# Altium schematic symbol library Deej Board.SCHLIB: 24 symbols
Pins are listed as number, name and electrical type; pins without a type are passive.

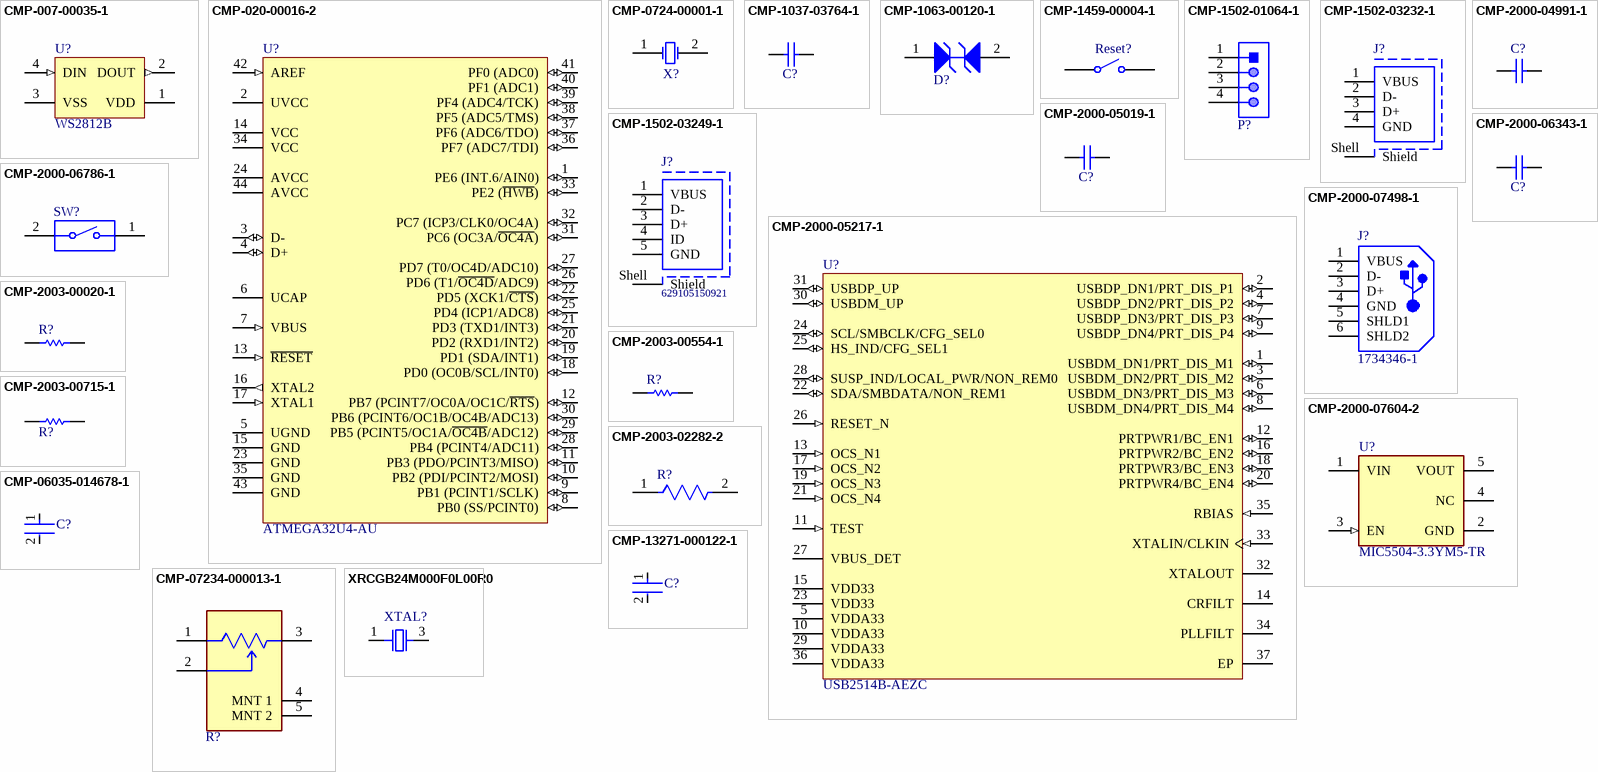
[diagram p0: symbols CMP-007-00035-1 to XRCGB24M000F0L00R0]

## CMP-007-00035-1
designator U?, comment WS2812B
Intelligent Control LED Integrated Light Source, 3.5 to 5.3 V, -25 to 80 degC, 4-Pin SMD, RoHS, Bulk; Manufacturer: Adafruit Industries; Mounting Technology: SM; Case/Package: WS2812B; Datasheet URL: https://cdn-shop.adafruit.com/datasheets/WS2812B.pdf; Manufacturer URL: https://www.adafruit.com/; Package Reference: WS2812B; Package Description: 4-Pin Surface Mount Device, Body 5 x 5 mm, Pitch 3.3 mm; RoHS Compliant: False; Datasheet Version: May-13; Manufacturer Part Number: WS2812B; Component Type: LED
footprint ADAI-WS2812B_V (SMD, 4-Leads, Body 5x5mm, Pitch 3.3mm)
pins: 1 VDD (power) "Power supply LED", 2 DOUT (out) "Control data signal output", 3 VSS (power) "Ground", 4 DIN (in) "Control data signal input"

## CMP-020-00016-2
designator U?, comment ATMEGA32U4-AU
8-bit Microcontroller with 32 Kbytes of ISP Flash and USB Controller, 2.7 to 5.5 V, -40 to 85 degC, 44-Pin QFP, Tray; Manufacturer: Atmel; Manufacturer: Microchip / Atmel; Package Version: Rev. J, 02/2014; Min Supply Voltage: 2.7V; PWM Channels: 8; Ethernet Channels: 0; I/Os: 26; Max Clock Frequency: 16MHz; Density: 32KB; ADC Channels: 12; Max Supply Voltage: 5.5V; Interface: USART; RAM Size: 2.5KB; Pins: 44; Package Description: 44-Pin Thin Profile Plastic Quad Flat Papckage, Body 10 x 10 mm, Pitch 0.8 mm; Case/Package: TQFP; Packaging: Tray; Package URL: http://www.atmel.com/images/atmel-7766-8-bit-avr-atmega16u4-32u4_summary.pdf; Package Reference: 44ML; Mounting Technology: SM; Datasheet Version: Rev. 7766IS, 07/2015; RoHS Compliant: True; Frequency: 16MHz; Max Operating Temperature: 85°C; Package Quantity: 800; Min Operating Temperature: -40°C; Manufacturer URL: http://www.atmel.com/; Datasheet URL: http://www.atmel.com/images/atmel-7766-8-bit-avr-atmega16u4-32u4_summary.pdf; Manufacturer Part Number: ATMEGA32U4-AU; Component Type: Processors
footprint ATML-44ML_M (TQFP, 44-Leads, Body 10x10mm, Pitch 0.8mm, IPC Low Density)
footprint ATML-44ML_N (TQFP, 44-Leads, Body 10x10mm, Pitch 0.8mm, IPC Medium Density)
footprint ATML-44ML_L (TQFP, 44-Leads, Body 10x10mm, Pitch 0.8mm, IPC High Density)
pins: 1 PE6 (INT.6/AIN0) (io), 2 UVCC (power), 3 D- (io), 4 D+ (io), 5 UGND (power), 6 UCAP, 7 VBUS (in), 8 PB0 (SS/PCINT0) (io), 9 PB1 (PCINT1/SCLK) (io), 10 PB2 (PDI/PCINT2/MOSI) (io), 11 PB3 (PDO/PCINT3/MISO) (io), 12 PB7 (PCINT7/OC0A/OC1C/~{RTS}) (io), 13 ~{RESET} (in), 14 VCC (power), 15 GND (power), 16 XTAL2 (out), 17 XTAL1 (in), 18 PD0 (OC0B/SCL/INT0) (io), 19 PD1 (SDA/INT1) (io), 20 PD2 (RXD1/INT2) (io), 21 PD3 (TXD1/INT3) (io), 22 PD5 (XCK1/~{CTS}) (io), 23 GND (power), 24 AVCC (power), 25 PD4 (ICP1/ADC8) (io), 26 PD6 (T1/~{OC4D}/ADC9) (io), 27 PD7 (T0/OC4D/ADC10) (io), 28 PB4 (PCINT4/ADC11) (io), 29 PB5 (PCINT5/OC1A/~{OC4B}/ADC12) (io), 30 PB6 (PCINT6/OC1B/OC4B/ADC13) (io), 31 PC6 (OC3A/~{OC4A}) (io), 32 PC7 (ICP3/CLK0/OC4A) (io), 33 PE2 (~{HWB}) (io), 34 VCC (power), 35 GND (power), 36 PF7 (ADC7/TDI) (io), 37 PF6 (ADC6/TDO) (io), 38 PF5 (ADC5/TMS) (io), 39 PF4 (ADC4/TCK) (io), 40 PF1 (ADC1) (io), 41 PF0 (ADC0) (io), 42 AREF (in), 43 GND (power), 44 AVCC (power)

## CMP-0724-00001-1
designator X?, comment 9C-3.6864MBBK-T  (value not drawn)
9C Series Quartz Crystal, 3.6864 MHz, +/-50 ppm, 20 pF, -40 to 85 degC, 2-Pin 11.4 x 4.8 x 4.1 mm SMD, RoHS, Tape and Reel; Manufacturer: TXC; Load Capacitance: 20 pF; Frequency Stability (over Temp.): +/-50 ppm (-20 to 70 degC); PackageVersion: Jun-10; PackageDescription: 2-Pin SMD, Body 11.4 x 4.8 mm, Height 4.1 mm; Packing: Tape and Reel; PackageReference: 9C-2; ComponentLink2URL: http://www.txccrystal.com/images/pdf/9c.pdf; ComponentLink3URL: http://www.txccrystal.com/images/pdf/9c.pdf; PartNumber: 9C-3.6864MBBK-T; Mounting Technology: Surface Mount; ComponentLink3Description: Package Specification; ComponentLink2Description: Datasheet; Frequency Tolerance (at 25 degC): +/-50 ppm; ComponentLink1URL: http://www.txccrystal.com/; RoHS: TRUE; Frequency: 3.6864 MHz; DatasheetVersion: Jun-10; ComponentLink1Description: Manufacturer URL; Operating Temperature Range: -40 to 85 degC; Manufacturer Part Number: 9C-3.6864MBBK-T
footprint TXC-9C-2_V (SMD, 2-Leads, Body 11.4 x 4.8 mm, Height 4.1 mm)
pins: 1 X1, 2 X2

## CMP-1037-03764-1
designator C?, comment CAP 22pF 50V 1206(3216)  (value not drawn)
CAP 22nF 50V ±5% 1206 (3216 Metric) Thickness 1mm SMD; Manufacturer: KEMET; Manufacturer Part Number: C1206C223J5GAC; Manufacturer: Murata; Manufacturer Part Number: GRM3195C1H223JA01D; Manufacturer: Vishay Vitramon; Manufacturer Part Number: VJ1206Y223JXAPW1BC; Manufacturer: TDK; Manufacturer Part Number: C3216C0G1H223J/0.60; Manufacturer: Kyocera AVX; Manufacturer Part Number: 12065C223JAT7A; Manufacturer Part Number: C1206C223J5RAC; Manufacturer Part Number: 12065C223JAT4A; Manufacturer Part Number: C1206C223J5GACTU; Manufacturer Part Number: VJ1206Y223JXACW1BC; Manufacturer: Yageo; Manufacturer Part Number: CC1206JRX7R9BB223; Manufacturer Part Number: 12065C223JAT2A; Manufacturer Part Number: C1206C223J5RACTU; Manufacturer Part Number: C1206C223J5RACTM; Tolerance: Â±5%; Case-Metric: 3216; Case-EIA: 1206; Technology: SMT; Rated Voltage: 50 V; Max Thickness: 1 mm; Value: 22nF
footprint CAPC1206(3216)100_N (Chip Capacitor, Body 3.2x1.6mm, Height 1mm, IPC Medium Density)
footprint CAPC1206(3216)100_M (Chip Capacitor, Body 3.2x1.6mm, Height 1mm, IPC Low Density)
footprint CAPC1206(3216)100_L (Chip Capacitor, Body 3.2x1.6mm, Height 1mm, IPC High Density)
pins: 1, 2
1 alternate drawing of the same symbol

## CMP-1063-00120-1
designator D?, comment ESD9B3.3ST5G  (value not drawn)
Transient Voltage Suppressor, Micro-Packaged Diode for ESD Protection, 2-Pin SOD-923, Pb-Free, Tape and Reel; Manufacturer: On Semiconductor; Number of Lines: 1; V(BR) Min (V): 5; VRWM Max (V): 3.3; Direction: Bidirectional; ComponentLink3URL: http://www.onsemi.com/pub_link/Collateral/514AB.PDF; PartNumber: ESD9B3.3ST5G; PackageVersion: Rev. C, 03/2011; Mounting Technology: Surface Mount; PackageReference: SOD-923-2-514AB-01; RoHS: Pb-Free; DatasheetVersion: Rev. 2; ComponentLink1URL: http://www.onsemi.com/; PackageDescription: 2-Pin SOD, Body 0.8 x 0.6 mm; ComponentLink3Description: Package Specification; ComponentLink2URL: http://www.onsemi.cn/pub_link/Collateral/ESD9B-D.PDF; IR Max (uA): 1; Packing: Tape and Reel; ComponentLink2Description: Datasheet; ComponentLink1Description: Manufacturer URL; Manufacturer: ON Semiconductor; Manufacturer Part Number: ESD9B3.3ST5G
footprint ONSC-SOD-923-2-514AB-01_V (SOD, 2-Leads, Body 0.8x0.6mm)
pins: 1 A1, 2 A2

## CMP-1459-00004-1
designator Reset?, comment 434121025816  (value not drawn)
WS-TASV SMD Tact Switch 6.0X3.8 mm; Manufacturer: Wuerth Elektronik; Manufacturer: Wurth Electronics; NoPins: 02; PackageReference: 434121025816; ComponentLink2URL: http://katalog.we-online.de/em/datasheet/434121025816.pdf; PartNumber: 434121025816; ComponentLink2Description: Datasheet; ComponentLink1URL: http://www.we-online.com; ComponentLink1Description: Manufacturer URL; Manufacturer Part Number: 434121025816
footprint 434121025816 (6.0*3.8mm vertical type, SMD, height 2.5mm, black actuator, 160gf, T&R)
pins: 1, 2

## CMP-1502-01064-1
designator P?, comment 61300411121  (value not drawn)
THT Vertical Pin Header WR-PHD, Pitch 2.54 mm, Single Row, 4 pins; Manufacturer: Wurth Elektronik; Manufacturer: Wurth Electronics; Withstanding Voltage: 500VAC; Rated Current: 3A; Working Voltage: 250VAC; Pin Number: 4; Gender: Male; Contact Resistance: 20mOhm; Pitch: 2.54mm; Manufacturer URL: http://www.we-online.de; Operating Temperature: -40to105degC; Packaging: Bag; Mounting Technology: THT; Package Reference: 61300411121; Datasheet URL: https://katalog.we-online.de/em/datasheet/6130xx11121.pdf; Publisher: WurthElektronik; Part Number: 61300411121; Row Number: Single; Orientation: Vertical; Manufacturer Part Number: 61300411121
footprint 61300411121 (Pin Header, pitch 2.54 mm, THT, Vertical, single row, 4p)
pins: 1, 2, 3, 4

## CMP-1502-03232-1
designator J?, comment 629104190121  (value not drawn)
USB 2.0 Type A Receptacle WR-COM, Horizontal, SMT, Short Type with Pads and Pegs; Manufacturer: Wurth Elektronik; Manufacturer: Wurth Electronics; Contact Resistance: 30mOhm; Rated Current: 1.5A; Working Voltage: 30VAC; Orientation: Horizontal; Package Reference: 629104190121; Connector Type: USB2.0TypeA; Operating Temperature: -40to85degC; Publisher: WurthElektronik; Manufacturer URL: http://www.we-online.de; Mounting Technology: SMT; Packaging: TapeandReel; Datasheet URL: https://katalog.we-online.de/em/datasheet/629104190121.pdf; Part Number: 629104190121; Gender: Receptacle; Manufacturer Part Number: 629104190121
footprint 629104190121 (USB 2.0 Type A Horizontal SMT Short Type)
pins: 1 VBUS, 2 D-, 3 D+, 4 GND, Shell Shield

## CMP-1502-03249-1
designator J?, comment 629105150921
Micro USB 2.0 Type AB Receptacle WR-COM, Horizontal, SMT; Manufacturer: Wurth Elektronik; Manufacturer: Wurth Electronics; Rated Current: 1.8A; Contact Resistance: 30mOhm; Working Voltage: 30VAC; Publisher: WurthElektronik; Part Number: 629105150921; Operating Temperature: -40to85degC; Gender: Receptacle; Packaging: TapeandReel; Connector Type: MicroUSB2.0TypeAB; Datasheet URL: https://katalog.we-online.de/em/datasheet/629105150921.pdf; Mounting Technology: SMT; Orientation: Horizontal; Package Reference: 629105150921; Manufacturer URL: http://www.we-online.de; Manufacturer Part Number: 629105150921
footprint 629105150921 (Footprint not found)
pins: 1 VBUS, 2 D-, 3 D+, 4 ID, 5 GND, Shell Shield

## CMP-2000-04991-1
designator C?, comment C1206C105K3RACTU  (value not drawn)
Chip Capacitor, 1 uF, +/- 10%, 25 V, -55 to 125 degC, 1206 (3216 Metric), RoHS, Tape and Reel; Manufacturer: Kemet; Manufacturer: Samsung; Manufacturer Part Number: CL31B105KBHNNNE; Temperature Coefficient / Code: +/-15%; Capacitance: 1uF; Dielectric: X7R; Voltage Rating DC: 25V; Capacitance - nF: 1000nF; Class: Class1; Case Length: 3.2mm; Type: SMDMLCCX7R6.3-250VDCCommericalGrade; Case Width: 1.6mm; Product: GeneralTypeMLCCs; Datasheet URL: https://ciiva.com/datasheet-click-18194173?src=ciiva&sig=6daff8c4; Operating Temperature Range: -55Cto+125C; Series: C1206C; RoHS: Details; Product Category: MultilayerCeramicCapacitorsMLCC-SMD/SMT; Manufacturer URL: http://www.kemet.com/; Minimum Operating Temperature: -55C; Dimensions: 1.6mmWx3.2mmLx1.6mmH; Termination Style: SMD/SMT; Brand: Kemet; Packaging: Reel; Package / Case: 1206(3216metric); Case Code - mm: 3216; Datasheet Version: Jul-14; Factory Pack Quantity: 2000; Package Description: 2-Pin Surface Mount Device, Body 3.2 x 1.6 mm; Tolerance: 10%; Package Reference: 1206; Case Height: 1.6mm; Case Code - in: 1206; Maximum Operating Temperature: +125C; Voltage Rating: 25V; Manufacturer: KEMET; Manufacturer Part Number: C1206C105K3RACTU
footprint CAPC3216X180X50ML20T25 (Chip Capacitor, 2-Leads, Body 3.40x1.80mm, IPC Low Density)
footprint CAPC3216X180X50NL20T25 (Chip Capacitor, 2-Leads, Body 3.20x1.60mm, IPC Medium Density)
footprint CAPC3216X180X50LL20T25 (Chip Capacitor, 2-Leads, Body 3.20x1.60mm, IPC High Density)
pins: 1, 2

## CMP-2000-05019-1
designator C?, comment 12061Z475KAT2A  (value not drawn)
Chip Capacitor, 4.7 uF, +/- 10%, 100 V, -55 to 125 degC, 1206 (3216 Metric), RoHS, Tape and Reel; Manufacturer: AVX; Manufacturer: Kyocera AVX; Dielectric Characteristic: X7S; Voltage Rating: 100V; SVHC: NoSVHC(17-Dec-2015); Ceramic Capacitor Case: 1206[3216Metric]; Capacitance: 4.7µF; Packaging: CutTape; Datasheet Version: Oct-13; Operating Temperature Max: 125degC; Manufacturer URL: http://www.avx.com/; MSL: MSL1-Unlimited; Datasheet URL: https://datasheet.ciiva.com/22677/1789384-22677168.pdf; Capacitance Tolerance: ±10%; Operating Temperature Min: -55degC; Manufacturer Part Number: 12061Z475KAT2A
footprint CAPC3216X190X50ML20T25 (Chip Capacitor, 2-Leads, Body 3.20x1.60mm, IPC Low Density)
footprint CAPC3216X190X50NL20T25 (Chip Capacitor, 2-Leads, Body 3.20x1.60mm, IPC Medium Density)
footprint CAPC3216X190X50LL20T25 (Chip Capacitor, 2-Leads, Body 3.20x1.60mm, IPC High Density)
pins: 1, 2

## CMP-2000-05217-1
designator U?, comment USB2514B-AEZC
USB 2.0 High-Speed Hub Controller, 4 Ports, 3 to 3.6 V, 0 to 85 degC, 36-Pin QFN, RoHS, Tray; Manufacturer: Microchip; Interface: I²CEEPROM,SMBus(2-Wire,I²C); Other Names: 638-1122; Voltage - Supply: 3V~3.6V; Current - Supply: 70mA; Manufacturer URL: http://www.microchip.com/; Packaging: Tray; Function: -; Standards: -; Category: IntegratedCircuits(ICs); Package / Case: 36-VFQFNExposedPad; Supplier Device Package: 36-QFN(6x6); Family: Interface-Controllers; Datasheet Version: DS00001692C, 10/2015; Standard Package: 490; Series: -; Protocol: -; Datasheet URL: http://ww1.microchip.com/downloads/en/DeviceDoc/00001692C.pdf; Operating Temperature: -; Manufacturer Part Number: USB2514B-AEZC
footprint MCHP-QFN-36_V (QFN, 36-Leads, Body 6.00x6.00mm, Pitch 0.50mm, Thermal Pad 3.70x3.70mm)
pins: 1 USBDM_DN1/PRT_DIS_M1 (io), 2 USBDP_DN1/PRT_DIS_P1 (io), 3 USBDM_DN2/PRT_DIS_M2 (io), 4 USBDP_DN2/PRT_DIS_P2 (io), 5 VDDA33 (power) "3.3 V Analog Power", 6 USBDM_DN3/PRT_DIS_M3 (io), 7 USBDP_DN3/PRT_DIS_P3 (io), 8 USBDM_DN4/PRT_DIS_M4 (io), 9 USBDP_DN4/PRT_DIS_P4 (io), 10 VDDA33 (power) "3.3 V Analog Power", 11 TEST (in) "Test Pin: treat as a no connect pin or connect to ground. No trace or signal should be routed or attached to this pin.", 12 PRTPWR1/BC_EN1 (io), 13 OCS_N1 (in) "Over-Current Sense: input from external current monitor indicating an overcurrent condition.", 14 CRFILT "VDD Core Regulator Filter Capacitor: this pin can have up to a 0.1 uF low-ESR capacitor to VSS, or be left unconnected.", 15 VDD33 (power) "3.3 V Digital Power", 16 PRTPWR2/BC_EN2 (io), 17 OCS_N2 (in) "Over-Current Sense: input from external current monitor indicating an overcurrent condition.", 18 PRTPWR3/BC_EN3 (io), 19 OCS_N3 (in) "Over-Current Sense: input from external current monitor indicating an overcurrent condition.", 20 PRTPWR4/BC_EN4 (io), 21 OCS_N4 (in) "Over-Current Sense: input from external current monitor indicating an overcurrent condition.", 22 SDA/SMBDATA/NON_REM1 (io), 23 VDD33 (power) "3.3 V Digital Power", 24 SCL/SMBCLK/CFG_SEL0 (io), 25 HS_IND/CFG_SEL1 (io), 26 RESET_N (in) "RESET Input: the system can reset the chip by driving this input low. The minimum active low pulse is 1 us.", 27 VBUS_DET (power) "Detect Upstream VBUS Power: detects the state of the upstream VBUS power. The SMSC hub monitors VBUS_DET to determine when to assert the internal D+ pull-up resistor: (signaling a connect event). When designing a detachable (See Datasheet)", 28 SUSP_IND/LOCAL_PWR/NON_REM0 (io), 29 VDDA33 (power) "3.3 V Analog Power", 30 USBDM_UP (io) "USB Data: connect to the upstream USB bus data signals (host, port, or upstream hub).", 31 USBDP_UP (io) "USB Data: connect to the upstream USB bus data signals (host, port, or upstream hub).", 32 XTALOUT "Crystal Output: this is the other terminal of the crystal circuit with 1.2 V p-p output and a weak (< 1mA) driving strength. When an external clock source is used to drive XTALIN/CLKIN, leave this pin unconnected, or use (See Datasheet)", 33 XTALIN/CLKIN (in), 34 PLLFILT "PLL Regulator Filter Capacitor: this pin can have up to a 0.1 uF low-ESR capacitor to VSS, or be left unconnected.", 35 RBIAS (in) "USB Transceiver Bias: a 12.0 kohm (+/- 1%) resistor is attached from ground to this pin to set the transceiver’s internal bias settings.", 36 VDDA33 (power) "3.3 V Analog Power", 37 EP (power) "Ground Pad/ePad: the package slug is the only VSS for the device and must be tied to ground with multiple vias."

## CMP-2000-06343-1
designator C?, comment GRM31C5C1E104JA01L  (value not drawn)
Chip Capacitor, 100 nF, +/- 5%, 25 V, -55 to 125 degC, 1206 (3216 Metric), RoHS, Tape and Reel; Manufacturer: Murata; External Width: 0.5mm; Voltage Rating V DC: 25V; Capacitor Case Style: 1206[3216Metric]; Insulation Resistance: 10000Mohm; Capacitor Terminals: SMD; Capacitance: 0.1µF; Temperature Coefficient: 0ppm/°C±30ppm/°C; External Length / Height: 1mm; Reel Quantity: 2000; Dielectric Characteristic: C0G/NP0; SVHC: NoSVHC(19-Dec-2012); No. of Pins: 2; Manufacturer URL: http://www.murata.com/; Mounting Technology: SurfaceMount; Operating Temperature Range: -55°Cto+125°C; Operating Temperature Max: 125°C; Package Description: 2-Pin Surface Mount Device, Body 3.2 x 1.6 mm; Operating Temperature Min: -55°C; Terminal Type: SurfaceMount(SMD,SMT); MSL: –; Tolerance +: 5%; Voltage Rating: 25V; Datasheet URL: https://datasheet.ciiva.com/3777/11308grm31c5c1e104ja0123-3777177.pdf; Datasheet Version: 09/2014; Package / Case: 1206; Capacitance Tolerance: ±5%; Package Reference: 1206; Lead Spacing: –; Tolerance -: 5%; Manufacturer Part Number: GRM31C5C1E104JA01L
footprint CAPC3216X180X55LL20T25 (Chip Capacitor, 2-Leads, Body 3.4x1.8mm, IPC High Density)
footprint CAPC3216X180X55ML20T25 (Chip Capacitor, 2-Leads, Body 3.4x1.8mm, IPC Low Density)
footprint CAPC3216X180X55NL20T25 (Chip Capacitor, 2-Leads, Body 3.4x1.8mm, IPC Medium Density)
pins: 1, 2

## CMP-2000-06786-1
designator SW?, comment MX1A-11NW  (value not drawn)
Keylock Switch, 12 V, -10 to 70 degC, 2-Pin THD, RoHS, Bulk; Manufacturer: Cherry; Part No: MX1A11NW; Maximum DC Voltage Rating: 12V; COO: UK; Row Spacing: 6.35mm; Pole Throw Configuration: SPST; Total Travel: 4.06mm; Illumination Type: N/R; Actuator Style: Button; Operating Force: 0.58N; Electrical Life: 50000000Cycle; Minimum Insulation Resistance: 100MOhm; Body Orientation: Straight; Actuator Length: 3.6mm; Switch Configuration: N.O.; Maximum Current Rating: 0.01A; Maximum Contact Resistance: 200mOhm; Actuator Color: N/A; Terminal Type: PCPins; Operating Temperature: -10to70C; Number of Terminals: 2; Operating Speed: N/A; Maximum AC Voltage Rating: 12V; Housing Material: N/A; Datasheet URL: https://cdn.sparkfun.com/datasheets/Components/Switches/MX%20Series.pdf; Type: DesktopProfile; Terminal Pitch: 2.54mm; Package Reference: MX1A-11NW; ECCN: EAR99; Family: MX; Packaging: N/A; HTS: 8536509065; Actuator Material: N/A; Package Description: 2-Pin Through Hole Device, Body 15.6 x 15.6 mm; Dielectric Strength: N/A; Illumination Color: N/R; Manufacturer URL: http://cherryswitches.com/cn/; Dimension: 15.6x15.6x15.2mm; Mechanical Life: N/A; RoHS: Unknown; Contact Plating: N/A; Supplier: CherryElectrical; Contact Material: Silver/Gold; IP Rating: N/A; Mounting: ThroughHole; Datasheet Version: 09/2000; Maximum Power Rating: N/A; Mounting Technology: ThroughHole; Manufacturer Part Number: MX1A-11NW
footprint CHRY-MX1A-11NW_V (THD, 2-Leads, Body 15.6x15.6mm)
pins: 1, 2

## CMP-2000-07498-1
designator J?, comment 1734346-1
USB-B Receptacle Connector, Height 10.87 mm, 0 to 50 degC, RoHS, Tray; Manufacturer: TE Connectivity; Insulation Resistance: 1GR; Number of Contacts: 4; Number of Ports: 1; Plating: Nickel; Case\/Package: SMD/SMT; Insulation Material: Thermoplastic; Gender: Receptacle; Depth: 16mm; Contact Material: Bronze; Length: 16.5mm; ELV: Compliant; Packaging: Tray; RoHSCompliant: true; Number of Terminals: 4; Manufacturer URL: http://www.te.com/; Datasheet Version: Rev. C, 06/2011; Package Reference: 1734346-1; Flammability Rating: UL94V-0; Package Description: 4-Pin Pin Surface Mount Device, Body 12.04 x 16 mm, Height 10.87 mm; Mount: Horizontal; Mounting Technology: SurfaceMount; REACH SVHC: Unknown; Material: Bronze; Housing Colour: Black; Contact Plating: Gold; Package Quantity: 100; Orientation: RightAngle; Termination: SMD/SMT; Housing Material: Nylon; Number of Positions: 4; Datasheet URL: http://www.te.com/commerce/DocumentDelivery/DDEController?Action=srchrtrv&DocNm=1734346&DocType=Customer+Drawing&DocLang=English; Connector Type: Receptacle; Manufacturer Part Number: 1734346-1
footprint TECO-1734346-1_V (SMD, 4-Leads, Body 12.04x16mm, Height 10.87 mm)
pins: 1 VBUS, 2 D-, 3 D+, 4 GND, 5 SHLD1, 6 SHLD2

## CMP-2000-07604-2
designator U?, comment MIC5504-3.3YM5-TR
IC REG LINEAR 3.3V 300MA SOT23-5; Manufacturer: Microchip; Quiescent Current: 38uA; Operating Supply Current: 42uA; Max Input Voltage: 5.5V; Min Input Voltage: 2.5V; Output Type: Fixed; Power Supply Rejection Ratio (PSRR): 60dB; Dropout Voltage: 380mV; Accuracy: 3%; Number of Outputs: 1; Nominal Output Voltage: 3.3V; Max Output Current: 300mA; Length: 2.9mm; Mount: Surface Mount; Width: 1.6mm; Packaging: Tape and Reel; Output Current: 300mA; Min Operating Temperature: -40°C; Max Operating Temperature: 125°C; Height: 1.1mm; Case/Package: SOT-23-5; REACH SVHC: No SVHC; Number of Pins: 5; Output Voltage: 3.3V; Manufacturer Part Number: MIC5504-3.3YM5-TR
footprint FP-SOT23-5LD-PL-1-MFG
footprint FP-SOT23-5LD-PL-1-IPC_C
footprint FP-SOT23-5LD-PL-1-IPC_A
footprint FP-SOT23-5LD-PL-1-IPC_B
pins: 1 VIN (power), 2 GND (power), 3 EN (in), 4 NC, 5 VOUT (power)

## CMP-2003-00020-1
designator R?, comment ERJ-8ENF1004V  (value not drawn)
Manufacturer: Panasonic; Part Number: ERJ-8ENF1004V; Manufacturer Part Number: ERJ-8ENF1004V
footprint RESC3216X70X50NL05T20 (Chip Resistor, 2-Leads, Body 3.20x1.60mm, IPC Medium Density)
footprint RESC3216X70X50LL05T20 (Chip Resistor, 2-Leads, Body 3.20x1.60mm, IPC High Density)
pins: 1, 2
1 alternate drawing of the same symbol

## CMP-2003-00554-1
designator R?, comment ERJ-8GEYJ123V  (value not drawn)
Manufacturer: Panasonic; Part Number: ERJ-8GEYJ123V; Manufacturer Part Number: ERJ-8GEYJ123V
footprint RESC3216X70X50NL05T20 (Chip Resistor, 2-Leads, Body 3.20x1.60mm, IPC Medium Density)
footprint RESC3216X70X50LL05T20 (Chip Resistor, 2-Leads, Body 3.20x1.60mm, IPC High Density)
pins: 1, 2
1 alternate drawing of the same symbol

## CMP-2003-00715-1
designator R?, comment ERJ-P08J103V  (value not drawn)
Manufacturer: Panasonic; Part Number: ERJ-P08J103V; Manufacturer Part Number: ERJ-P08J103V
footprint RESC3216X70X50LL05T20 (Chip Resistor, 2-Leads, Body 3.20x1.60mm, IPC High Density)
footprint RESC3216X70X50NL05T20 (Chip Resistor, 2-Leads, Body 3.20x1.60mm, IPC Medium Density)
pins: 1, 2
1 alternate drawing of the same symbol

## CMP-2003-02282-2
designator R?, comment CRCW120656K0FKEA  (value not drawn)
RES Thick Film, 56kΩ, 1%, 0.25W, 100ppm/°C, 1206; Manufacturer: Vishay; Voltage Rating (DC): 200V; Resistance: 56kR; Power Rating: 250mW; Packaging: Tape and Reel; Case/Package: 1206; Lead Free: Lead Free; Height: 0.55mm; Max Operating Temperature: 155°C; Case Code (Metric): 3216; Tolerance: 1%; Contact Plating: Tin; Min Operating Temperature: -55°C; Termination: SMD/SMT; Voltage Rating: 200V; Number of Pins: 2; Radiation Hardening: No; Military Standard: Not; Depth: 1.6mm; Composition: Thick Film; Number of Terminations: 2; Package Quantity: 10; Temperature Coefficient: 100ppm/°C; Width: 0.063inch; Case Code (Imperial): 1206; Weight: 0.000353oz; Length: 3.2mm; Max Power Dissipation: 250mW; Features: Automotive AEC-Q200; Manufacturer Part Number: CRCW120656K0FKEA
footprint FP-CRCW1206-e3-IPC_C
footprint FP-CRCW1206-e3-IPC_B
footprint FP-CRCW1206-e3-IPC_A
footprint FP-CRCW1206-e3-MFG
pins: 1, 2

## CMP-06035-014678-1
designator C?, comment GRM31A7U2J180JW31D  (value not drawn)
Chip Multilayer Ceramic Capacitors for General Purpose, 1206, 18pF, U2J, -750ppm/°C, 5%, 630V; Manufacturer: Murata; Case Code (Metric): 3216; Termination: SMD/SMT; Case Code (Imperial): 1206; Lead Free: Lead Free; Package Quantity: 4000; Voltage Rating: 630V; Case/Package: 1206; Radiation Hardening: No; Capacitance: 18pF; REACH SVHC: No SVHC; Thickness: 0.039inch; Min Operating Temperature: -55°C; Mount: Surface Mount; Depth: 1.6mm; Dielectric: U2J; Packaging: Tape and Reel; Max Operating Temperature: 125°C; Length: 3.2mm; Width: 0.063inch; Tolerance: 5%; Voltage Rating (DC): 630V; Height: 1mm; Manufacturer Part Number: GRM31A7U2J180JW31D
footprint FP-GRM31A-0_2-e0_3_0_95-IPC_B
footprint FP-GRM31A-0_2-e0_3_0_95-IPC_A
footprint FP-GRM31A-0_2-e0_3_0_95-IPC_C
footprint FP-GRM31A-0_2-e0_3_0_95-MFG
pins: 1, 2

## CMP-07234-000013-1
designator R?, comment PTV09A-4020U-B103  (value not drawn)
POT 10K OHM 1/20W CARBON LINEAR; Manufacturer: Bourns Inc.; Manufacturer: Bourns; Voltage Rating: 50V; Resistance: 10kΩ; Tolerance: 20%; Value: 10kΩ; Power Rating: 0.05W; Composition: Carbon; Lead Free: Yes; Device Class L1: Passive Components; Device Class L3: Variable Resistors and Potentiometers; Temperature: -10°C to +50°C; Series: PTV09; Manufacturer Part Number: PTV09A-4020U-B103; Device Class L2: Resistors; Temperature Range Low: -10°C; Height: 20.5mm; Temperature Range High: +50°C; Octopart: https://octopart.com/ptv09a-4020u-b103-bourns-1878033; Digikey Description: POT 10K OHM 1/20W CARBON LINEAR; RoHS: TRUE; ComponentLink2URL: https://www.bourns.com/docs/product-datasheets/ptv09.pdf?sfvrsn=5e1089f1_12; Package: PTV09A-4; Mouser Description: Potentiometers 10K LINEAR 20%; Category: Res; ComponentLink2Description: Datasheet; Automotive: No
footprint FP-PTV09A-4-MFG
pins: 1, 2, 3, 4 MNT 1, 5 MNT 2

## CMP-13271-000122-1
designator C?, comment CL31B105MAHNNNE  (value not drawn)
Cap Ceramic 1uF 25V X7R ±20% SMD 1206 +125°C Embossed T/R; Manufacturer: Samsung; Radiation Hardening: No; Height: 1.6mm; Mount: Surface Mount; Packaging: Tape and Reel; Width: 0.063inch; Contact Plating: Tin; Package Quantity: 1; Thickness: 0.071inch; Tolerance: 20%; Case/Package: 1206; Length: 3.2mm; Case Code (Imperial): 1206; Dielectric: X7R; Voltage Rating: 25V; Depth: 1.6mm; Voltage Rating (DC): 25V; Max Operating Temperature: 125°C; Case Code (Metric): 3216; Min Operating Temperature: -55°C; Lead Free: Lead Free; Capacitance: 1uF; Manufacturer Part Number: CL31B105MAHNNNE
footprint FP-CL31-IPC_B
footprint FP-CL31-IPC_C
footprint FP-CL31-IPC_A
pins: 1, 2

## XRCGB24M000F0L00R0
designator XTAL?  (value not drawn)
24MHz Â±100ppm Crystal 6pF 150 Ohms 4-SMD, No Lead; MF: Murata; Digi-Key_Part_Number: 490-5575-1-ND; Value: *; SnapEDA_Link: https://www.snapeda.com/parts/XRCGB24M000F0L00R0/Murata%20Electronics%20North%20America/view-part/329553/?ref=snap; Package: SMD-4 Murata; Digi-Key_Purchase_URL: https://www.digikey.com/product-detail/en/murata-electronics/XRCGB24M000F0L00R0/490-5575-1-ND/2368389?utm_source=snapeda&utm_medium=aggregator&utm_campaign=symbol; MP: XRCGB24M000F0L00R0
footprint XTAL_XRCGB24M000F0L00R0
pins: 1, 3 2